# Altium footprint library SnapEDApcb.PcbLib: 1 footprints
Each footprint in its own frame and in the unit in brackets; x right, y up, seen from the top. Pads: shape width x height; smd on the part's side, far side on the other; paste and mask are expansions set on the pad; w line width, h text height; cw(c..) or ccw(c..) is an arc to the next point about the centre after c.
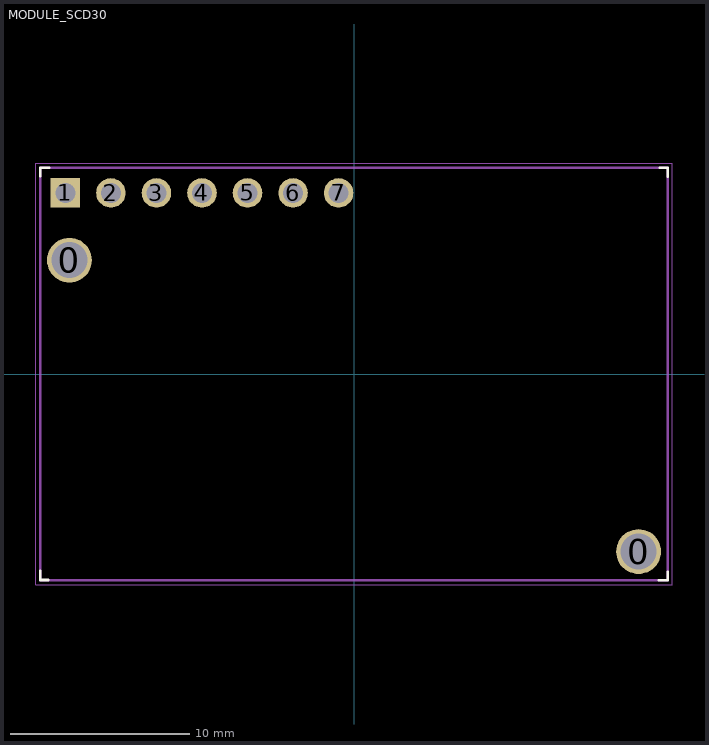
[diagram p0: the footprint, top view; thin cyan lines are the x and y axes]

## MODULE_SCD30 [mm]
pads (9):
  round 2.5 hole 2: 0(-15.875,6.35) 0(15.875,-9.906)
  rect 1.65x1.65 hole 1.1: 1(-16.1,10.1)
  round 1.65 hole 1.1: 2(-13.56,10.1) 3(-11.02,10.1) 4(-8.48,10.1) 5(-5.94,10.1) 6(-3.4,10.1) 7(-0.86,10.1)
Top Overlay:
  lines w0.15: -17.507,-11.491 -17.056,-11.491 ; -17.507,-11.478 -17.507,-10.983 ; -17.503,11.049 -17.503,11.5 -17.477,11.5 ; -17.49,11.5 -16.995,11.5 ; 16.999,-11.5 17.494,-11.5 ; 17.05,11.507 17.501,11.507 ; 17.501,10.999 17.501,11.494 ; 17.507,-11.5 17.507,-11.049
Mechanical 13:
  lines w0.127: -17.5,-11.5 -17.5,11.5 17.5,11.5 17.5,-11.5 -17.5,-11.5
Mechanical 15:
  lines w0.05: -17.75,-11.75 -17.75,11.75 17.75,11.75 17.75,-11.75 -17.75,-11.75
3D body "SCD30--3DModel-STEP-56544.STEP": height 15.45, standoff 8.45, extent -17.5,-11.5 17.5,11.5